# Altium footprint library myPcbLib.PcbLib: 32 footprints (part 1 of 2)
Each footprint in its own frame and in the unit in brackets; x right, y up, seen from the top. Pads: shape width x height; smd on the part's side, far side on the other; paste and mask are expansions set on the pad; w line width, h text height; cw(c..) or ccw(c..) is an arc to the next point about the centre after c.
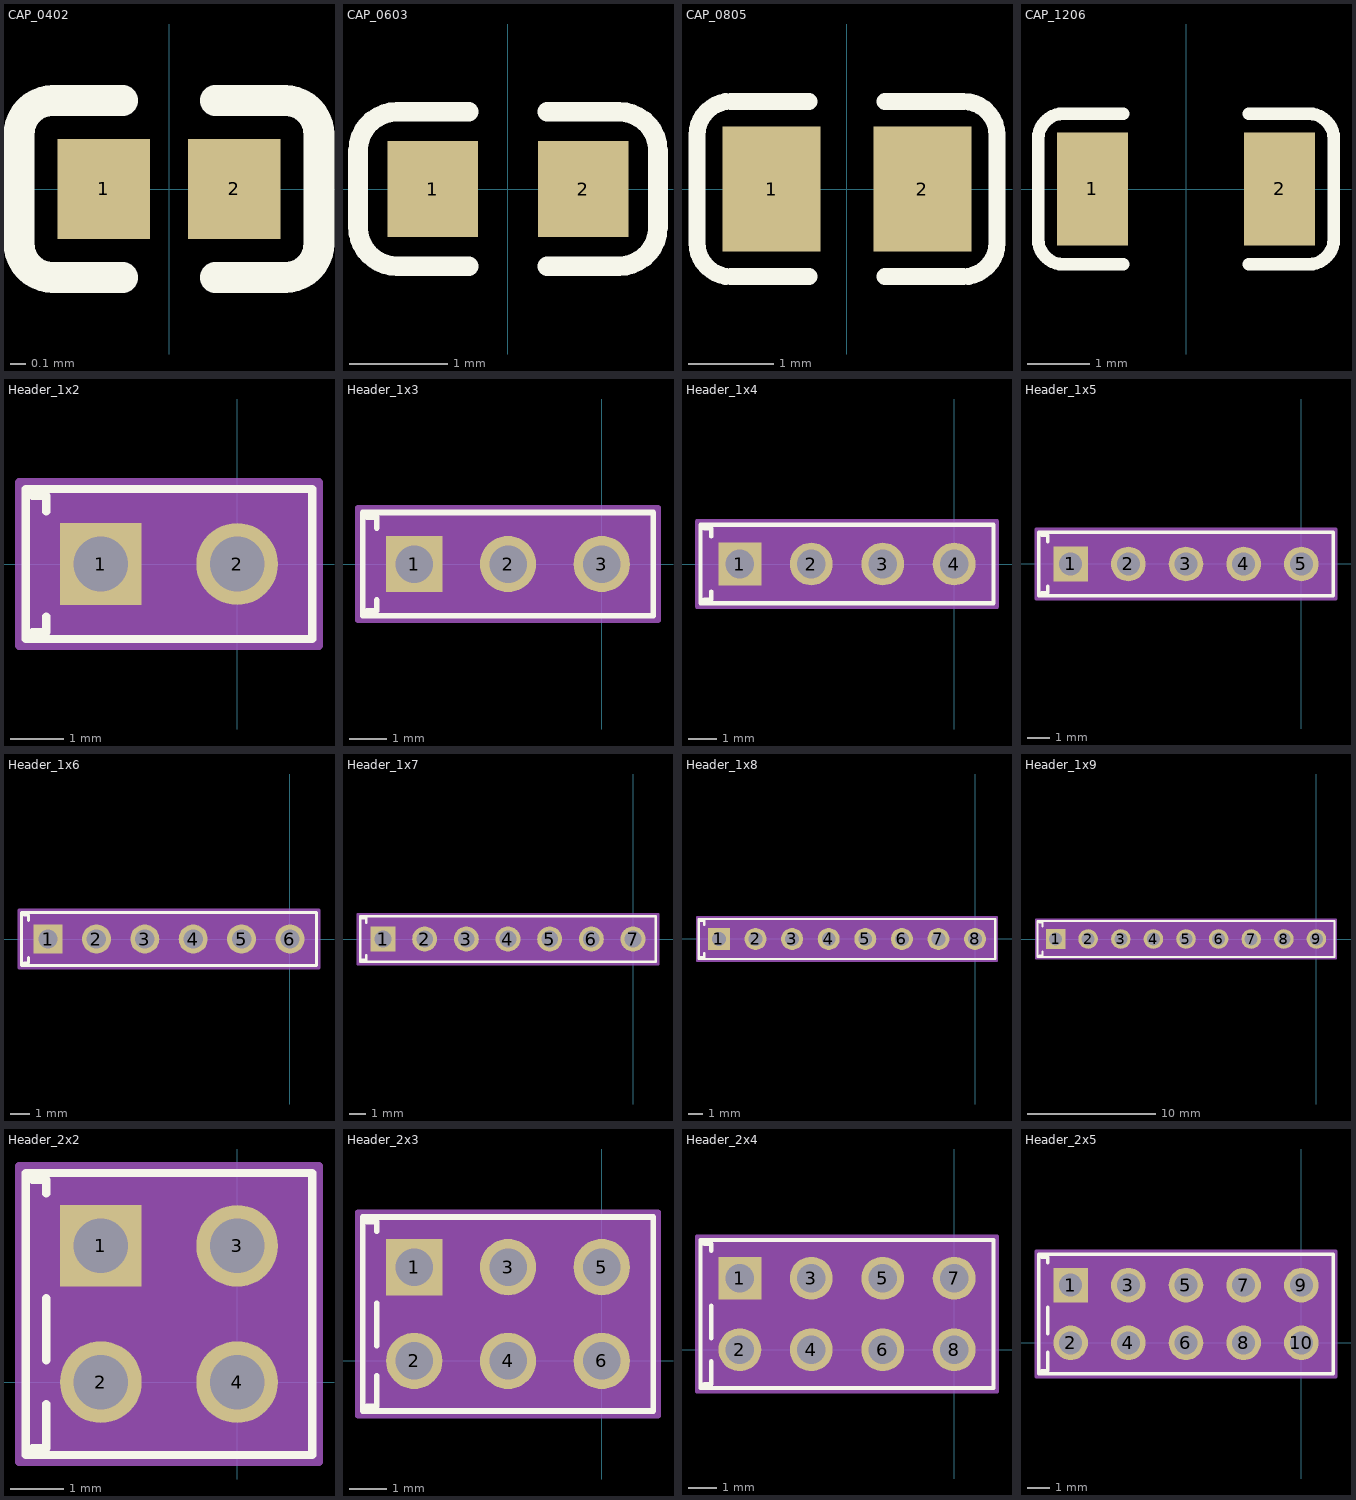
[diagram p0: the footprints below, top view; thin cyan lines are the x and y axes]

## CAP_0402 [mm] "无极性贴片电容0402封装"
pads (2):
  rect 0.6x0.65 smd mask+0.051: 1(-0.425,0) 2(0.425,0)
Top Overlay:
  lines w0.2: -0.755,-0.575 cw(c-0.755,-0.355) -0.975,-0.355 -0.975,0.355 cw(c-0.755,0.355) -0.755,0.575 ; -0.75,-0.575 -0.3,-0.575 ; -0.75,0.575 -0.3,0.575 ; 0.3,-0.575 0.75,-0.575 ; 0.3,0.575 0.75,0.575 ; 0.755,-0.575 ccw(c0.755,-0.355) 0.975,-0.355 0.975,0.355 ccw(c0.755,0.355) 0.755,0.575
3D body "0402 SMD Capacitor.step": height 0.2, standoff 0, extent -0.483,-0.3 0.518,0.3

## CAP_0603 [mm] "无极性贴片电容0603封装"
pads (2):
  rect 0.93x0.98 smd: 1(-0.77,0) 2(0.77,0)
Top Overlay:
  lines w0.2: -0.4,-0.79 -1.135,-0.79 cw(c-1.135,-0.39) -1.535,-0.39 -1.535,0.39 cw(c-1.135,0.39) -1.135,0.79 -0.4,0.79 ; 0.4,-0.79 1.135,-0.79 ccw(c1.135,-0.39) 1.535,-0.39 1.535,0.39 ccw(c1.135,0.39) 1.135,0.79 0.4,0.79
3D body "User Library-0603 SMD Capacitor.STEP": height 0.3, standoff 0, extent -0.8,-0.4 0.8,0.4

## CAP_0805 [mm] "无极性贴片电容0805封装"
pads (2):
  rect 1.16x1.47 smd: 1(-0.89,0) 2(0.89,0)
Top Overlay:
  lines w0.2: -0.45,-1.035 -1.37,-1.035 cw(c-1.37,-0.635) -1.77,-0.635 -1.77,0.635 cw(c-1.37,0.635) -1.37,1.035 -0.45,1.035 ; 0.45,-1.035 1.37,-1.035 ccw(c1.37,-0.635) 1.77,-0.635 1.77,0.635 ccw(c1.37,0.635) 1.37,1.035 0.45,1.035
3D body "User Library-0805 SMD Capacitor.STEP": height 0.77, standoff -0.01, extent -0.999,-0.625 1.001,0.625

## CAP_1206 [mm] "无极性贴片电容1206封装"
pads (2):
  rect 1.13x1.8 smd: 1(-1.49,0) 2(1.49,0)
Top Overlay:
  lines w0.2: -1,-1.2 -1.955,-1.2 cw(c-1.955,-0.8) -2.355,-0.8 -2.355,0.8 cw(c-1.955,0.8) -1.955,1.2 -1,1.2 ; 1,-1.2 1.955,-1.2 ccw(c1.955,-0.8) 2.355,-0.8 2.355,0.8 ccw(c1.955,0.8) 1.955,1.2 1,1.2
3D body "C1206.STEP": height 1, standoff 0, extent -1.602,-0.813 1.598,0.787

## Header_1x2 [mil] "2P排针，脚距2.54mm"
pads (2):
  rect 60x60 hole 40 mask+0: 1(-100,0)
  round 60 hole 40 mask+0: 2(0,0)
Top Overlay:
  lines w6: -150,-50 -140,-50 -140,-38.46 ; -150,50 -140,50 -140,38.46 ; -155,-55 -155,55 55,55 55,-55 -155,-55
Mechanical 13:
  lines w1: -150,-50 -150,50 ; -150,-50 50,-50 50,50 -150,50 ; -150,-50 -140,-50 -140,50 -150,50
Mechanical 15:
  region: 60,60 -160,60 -160,-60 60,-60
  lines w6: -160,-60 60,-60 60,60 -160,60 -160,-60
3D body: height 10, standoff 0, extent 0,0 10,10
3D body "CON2_1X2_P100UM_HDR.stp": height 374.02, standoff -200, extent -149.99,-49.99 50.01,50.01

## Header_1x3 [mil] "3P排针，脚距2.54mm"
pads (3):
  rect 60x60 hole 40 mask+0: 1(-200,0)
  round 60 hole 40 mask+0: 2(-100,0) 3(0,0)
Top Overlay:
  lines w6: -250,-50 -240,-50 -240,-38.46 ; -250,50 -240,50 -240,38.46 ; -255,-55 55,-55 55,55 -255,55 -255,-55
Mechanical 13:
  lines w1: -250,-50 -240,-50 -240,50 -250,50 ; -250,-50 50,-50 50,50 -250,50 ; -250,-50 -250,50
Mechanical 15:
  region: 60,60 -260,60 -260,-60 60,-60
  lines w6: -260,-60 -260,60 60,60 60,-60 -260,-60
3D body "CON3_1X3_P100UM_HDR.stp": height 374.02, standoff -200, extent -249.99,-49.99 50.01,50.01
3D body: height 10, standoff 0, extent 0,0 10,10

## Header_1x4 [mil] "4P排针，脚距2.54mm"
pads (4):
  rect 60x60 hole 40 mask+0: 1(-300,0)
  round 60 hole 40 mask+0: 2(-200,0) 3(-100,0) 4(0,0)
Top Overlay:
  lines w6: -350,-50 -340,-50 -340,-38.46 ; -350,50 -340,50 -340,38.46 ; -355,-55 55,-55 55,55 -355,55 -355,-55
Mechanical 13:
  lines w1: -350,-50 -340,-50 -340,50 -350,50 ; -350,-50 50,-50 50,50 -350,50 ; -350,-50 -350,50
Mechanical 15:
  region: 60,60 -360,60 -360,-60 60,-60
  lines w6: -360,-60 -360,60 60,60 60,-60 -360,-60
3D body "CON4_1X4_P100UM_HDR2.stp": height 374.02, standoff -200, extent -349.99,-49.99 50.01,50.01
3D body: height 10, standoff 0, extent 0,0 10,10

## Header_1x5 [mil] "5P排针，脚距2.54mm"
pads (5):
  rect 60x60 hole 40 mask+0: 1(-400,0)
  round 60 hole 40 mask+0: 2(-300,0) 3(-200,0) 4(-100,0) 5(0,0)
Top Overlay:
  lines w6: -450,-50 -440,-50 -440,-38.46 ; -450,50 -440,50 -440,38.46 ; -455,-55 -455,55 55,55 55,-55 -455,-55
Mechanical 13:
  lines w1: -450,-50 -450,50 ; -450,-50 50,-50 50,50 -450,50 ; -450,-50 -440,-50 -440,50 -450,50
Mechanical 15:
  region: 60,60 -460,60 -460,-60 60,-60
  lines w6: -460,-60 60,-60 60,60 -460,60 -460,-60
3D body: height 10, standoff 0, extent 0,0 10,10
3D body "CON5_1X5_P100UM_HDR.stp": height 374.02, standoff -200, extent -449.99,-50 50.01,50

## Header_1x6 [mil] "6P排针，脚距2.54mm"
pads (6):
  rect 60x60 hole 40 mask+0: 1(-500,0)
  round 60 hole 40 mask+0: 2(-400,0) 3(-300,0) 4(-200,0) 5(-100,0) 6(0,0)
Top Overlay:
  lines w6: -550,-50 -540,-50 -540,-38.46 ; -550,50 -540,50 -540,38.46 ; -555,-55 55,-55 55,55 -555,55 -555,-55
Mechanical 13:
  lines w1: -550,-50 -540,-50 -540,50 -550,50 ; -550,-50 50,-50 50,50 -550,50 ; -550,-50 -550,50
Mechanical 15:
  region: 60,60 -560,60 -560,-60 60,-60
  lines w6: -560,-60 -560,60 60,60 60,-60 -560,-60
3D body "CON6_1X6_P100UM_HDR.stp": height 374.02, standoff -200, extent -549.99,-50 50.01,50
3D body: height 10, standoff 0, extent 0,0 10,10

## Header_1x7 [mil] "7P排针，脚距2.54mm"
pads (7):
  rect 60x60 hole 40 mask+0: 1(-600,0)
  round 60 hole 40 mask+0: 2(-500,0) 3(-400,0) 4(-300,0) 5(-200,0) 6(-100,0) 7(0,0)
Top Overlay:
  lines w6: -650,-50 -640,-50 -640,-38.46 ; -650,50 -640,50 -640,38.46 ; -655,-55 55,-55 55,55 -655,55 -655,-55
Mechanical 13:
  lines w1: -650,-50 -640,-50 -640,50 -650,50 ; -650,-50 50,-50 50,50 -650,50 ; -650,-50 -650,50
Mechanical 15:
  region: 60,60 -660,60 -660,-60 60,-60
  lines w6: -660,-60 -660,60 60,60 60,-60 -660,-60
3D body "CON7_1X7_P100UM_HDR.stp": height 374.02, standoff -200, extent -649.99,-50 50.01,50
3D body: height 10, standoff 0, extent 0,0 10,10

## Header_1x8 [mil] "8P排针，脚距2.54mm"
pads (8):
  rect 60x60 hole 38 mask+0: 1(-700,0)
  round 60 hole 38 mask+0: 2(-600,0) 3(-500,0) 4(-400,0) 5(-300,0) 6(-200,0) 7(-100,0) 8(0,0)
Top Overlay:
  lines w6: -750,-49.99 -740,-49.99 -740,-38.46 ; -750,50.01 -740,50.01 -740,38.46 ; -755,-55 55,-55 55,55 -755,55 -755,-55
Mechanical 13:
  lines w1: -750,-50 -740,-50 -740,50 -750,50 ; -750,-50 -750,50 ; -750,-50 50,-50 50,50 -750,50
Mechanical 15:
  region: 60,60 -760,60 -760,-60 60,-60
  lines w6: -760,-60 -760,60 60,60 60,-60 -760,-60
3D body "CON8_1X8_P100UM_HDR.stp": height 374.02, standoff -200, extent -749.99,-49.99 50.01,50.01
3D body: height 10, standoff 0, extent 0,0 10,10

## Header_1x9 [mil] "9P排针，脚距2.54mm"
pads (9):
  rect 60x60 hole 40 mask+0: 1(-800,0)
  round 60 hole 40 mask+0: 2(-700,0) 3(-600,0) 4(-500,0) 5(-400,0) 6(-300,0) 7(-200,0) 8(-100,0) 9(0,0)
Top Overlay:
  lines w6: -850,-50 -840,-50 -840,-38.46 ; -850,50 -840,50 -840,38.46 ; -855,-55 -855,55 55,55 55,-55 -855,-55
Mechanical 13:
  lines w1: -850,-50 -850,50 ; -850,-50 50,-50 50,50 -850,50 ; -850,-50 -840,-50 -840,50 -850,50
Mechanical 15:
  region: 60,60 -860,60 -860,-60 60,-60
  lines w6: -860,-60 60,-60 60,60 -860,60 -860,-60
3D body: height 10, standoff 0, extent 0,0 10,10
3D body "CON9_1X9_P100UM_HDR.stp": height 374.02, standoff -200, extent -849.99,-50 50.01,50

## Header_2x2 [mil] "2x2P双排排针，脚距2.54mm"
pads (4):
  rect 60x60 hole 40 mask+0: 1(-100,100)
  round 60 hole 40 mask+0: 2(-100,0) 3(0,100) 4(0,0)
Top Overlay:
  lines w6: -150,-48.5 -140,-48.5 -140,-16.05 ; -150,148.5 -140,148.5 -140,138.46 ; -140,16.05 -140,61.54 ; -155,-53.5 -155,153.5 55,153.5 55,-53.5 -155,-53.5
Mechanical 13:
  lines w1: -150,-48.5 -150,148.5 ; -150,-48.5 50,-48.5 50,148.5 -150,148.5 ; -150,-48.5 -140,-48.5 -140,148.5 -150,148.5
Mechanical 15:
  region: 60,158.5 -160,158.5 -160,-58.5 60,-58.5
  lines w6: -160,-58.5 60,-58.5 60,158.5 -160,158.5 -160,-58.5
3D body "CON4_2X2_P100UM_HDR.stp": height 374.02, standoff -200, extent -149.99,-49.99 50.01,150.01
3D body: height 10, standoff 0, extent 0,0 10,10

## Header_2x3 [mil] "2x3P双排排针，脚距2.54mm"
pads (6):
  rect 60x60 hole 40 mask+0: 1(-200,100)
  round 60 hole 40 mask+0: 2(-200,0) 3(-100,100) 4(-100,0) 5(0,100) 6(0,0)
Top Overlay:
  lines w6: -250,-48.5 -240,-48.5 -240,-16.05 ; -250,148.5 -240,148.5 -240,138.46 ; -240,16.05 -240,61.54 ; -255,-53.5 55,-53.5 55,153.5 -255,153.5 -255,-53.5
Mechanical 13:
  lines w1: -250,-48.5 -240,-48.5 -240,148.5 -250,148.5 ; -250,-48.5 50,-48.5 50,148.5 -250,148.5 ; -250,-48.5 -250,148.5
Mechanical 15:
  region: 60,158.5 -260,158.5 -260,-58.5 60,-58.5
  lines w6: -260,-58.5 -260,158.5 60,158.5 60,-58.5 -260,-58.5
3D body "CON6_2X3_P100UM_HDR.stp": height 374.02, standoff -200, extent -249.99,-49.99 50.01,150.01
3D body: height 10, standoff 0, extent 0,0 10,10

## Header_2x4 [mil] "2x4P双排排针，脚距2.54mm"
pads (8):
  rect 60x60 hole 40 mask+0: 1(-300,100)
  round 60 hole 40 mask+0: 2(-300,0) 3(-200,100) 4(-200,0) 5(-100,100) 6(-100,0) 7(0,100) 8(0,0)
Top Overlay:
  lines w6: -350,-48.5 -340,-48.5 -340,-16.05 ; -350,148.5 -340,148.5 -340,138.46 ; -340,16.05 -340,61.54 ; -355,-53.5 -355,153.5 55,153.5 55,-53.5 -355,-53.5
Mechanical 13:
  lines w1: -350,-48.5 -350,148.5 ; -350,-48.5 50,-48.5 50,148.5 -350,148.5 ; -350,-48.5 -340,-48.5 -340,148.5 -350,148.5
Mechanical 15:
  region: 60,158.5 -360,158.5 -360,-58.5 60,-58.5
  lines w6: -360,-58.5 60,-58.5 60,158.5 -360,158.5 -360,-58.5
3D body: height 10, standoff 0, extent 0,0 10,10
3D body "CON8_2X4_P100UM_HDR.stp": height 374.02, standoff -200, extent -350,-50 50,150

## Header_2x5 [mil] "2x5P双排排针，脚距2.54mm"
pads (10):
  rect 60x60 hole 40 mask+0: 1(-400,100)
  round 60 hole 40 mask+0: 2(-400,0) 3(-300,100) 4(-300,0) 5(-200,100) 6(-200,0) 7(-100,100) 8(-100,0) 9(0,100) 10(0,0)
Top Overlay:
  lines w6: -450,-48.5 -440,-48.5 -440,-16.05 ; -450,148.5 -440,148.5 -440,138.46 ; -440,16.05 -440,61.54 ; -455,-53.5 -455,153.5 55,153.5 55,-53.5 -455,-53.5
Mechanical 13:
  lines w1: -450,-48.5 -450,148.5 ; -450,-48.5 50,-48.5 50,148.5 -450,148.5 ; -450,-48.5 -440,-48.5 -440,148.5 -450,148.5
Mechanical 15:
  region: 60,158.5 -460,158.5 -460,-58.5 60,-58.5
  lines w6: -460,-58.5 60,-58.5 60,158.5 -460,158.5 -460,-58.5
3D body: height 10, standoff 0, extent 0,0 10,10
3D body "CON10_2X5_P100UM_HDR2.stp": height 374.02, standoff -200, extent -449.99,-49.99 50.01,150.01